# EAGLE library part FT234 (library sensor)
The FT234XD is a USB to serial UART interface with optimised packaging. (3mm x 3mm 12 pin DFN) for smaller PCB designs and the following advanced features.  Single chip USB to asynchronous serial data transfer interface.  Entire USB protocol handled on the chip. No USB specific firmware programming required.  Fully integrated 2048 byte multi-timeprogrammable (MTP) memory, storing device descriptors and CBUS I/O configuration.  Fully integrated clock generation with no external crystal required plus optional clock output selection enabling a glue-less interface to external MCU or FPGA.  Data transfer rates from 300 baud to 3 Mbaud (RS422, RS485, and RS232) at TTL levels.  512 byte receive buffer and 512 byte transmit buffer utilising buffer smoothing technology to allow for high data throughput.  FTDI’s royalty-free Virtual Com Port (VCP) and Direct (D2XX) drivers eliminate the requirement for USB driver development in most cases.  Configurable CBUS I/O pin.  Transmit and receive LED drive signals.  UART interface support for 7 or 8 data bits, 1 or 2 stop bits and odd / even / mark / space / no parity  Synchronous and asynchronous bit bang interface options with RD# and WR# strobes.  USB Battery Charging Detection. Allows for USB peripheral devices to detect the presence of a higher power source to enable improved charging.  Device supplied pre-programmed with unique USB serial number.  USB Power Configurations; supports bus- powered, self-powered and bus-powered with power switching  Integrated +3.3V level converter for USB I/O.  True 3.3V CMOS drive output and TTL input; operates down to 1V8 with external pull ups. Tolerant of 5V input.  Configurable I/O pin output drive strength; 4 mA (min) and 16 mA (max).  Integrated power-on-reset circuit.  Fully integrated AVCC supply filtering - no external filtering required.  UART signal inversion option.  + 5V Single Supply Operation.  Internal 3.3V/1.8V LDO regulators  Low operating and USB suspend current; 8mA (active-typ) and 70uA (suspend-typ).  UHCI/OHCI/EHCI host controller compatible.  USB 2.0 Full Speed compatible.  Extended operating temperature range; -40 to 85⁰C.  Available in compact Pb-free 12 pin DFN package (3mm x 3mm) RoHS compliant.
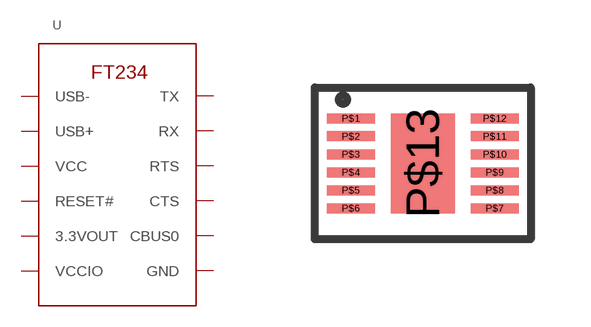
[diagram p7: symbol with the pads of DFN_12(3X3); footprint DFN_12(3X3)]

Designator prefix U

## FT234XD  [DFN_12(3X3)]
P$1  USB-
P$2  RESET#
P$3  3.3VOUT
P$4  VCC
P$5  GND
P$6  CBUS0
P$7  TX
P$8  RTS
P$9  VCCIO
P$10  RX
P$11  CTS
P$12  USB+
P$13  GND

## Footprint DFN_12(3X3) (pad centres in mm)
smd 1.2 x 0.25: P$1 -1.8,1.125; P$2 -1.8,0.675; P$3 -1.8,0.225; P$4 -1.8,-0.225; P$5 -1.8,-0.675; P$6 -1.8,-1.125; P$7 1.8,-1.125; P$8 1.8,-0.675; P$9 1.8,-0.225; P$10 1.8,0.225; P$11 1.8,0.675; P$12 1.8,1.125
smd 1.6 x 2.5: P$13 0,0